# Altium footprint library INTEL-EDISON.PcbLib: 1 footprints
Each footprint in its own frame and in the unit in brackets; x right, y up, seen from the top. Pads: shape width x height; smd on the part's side, far side on the other; paste and mask are expansions set on the pad; w line width, h text height; cw(c..) or ccw(c..) is an arc to the next point about the centre after c.
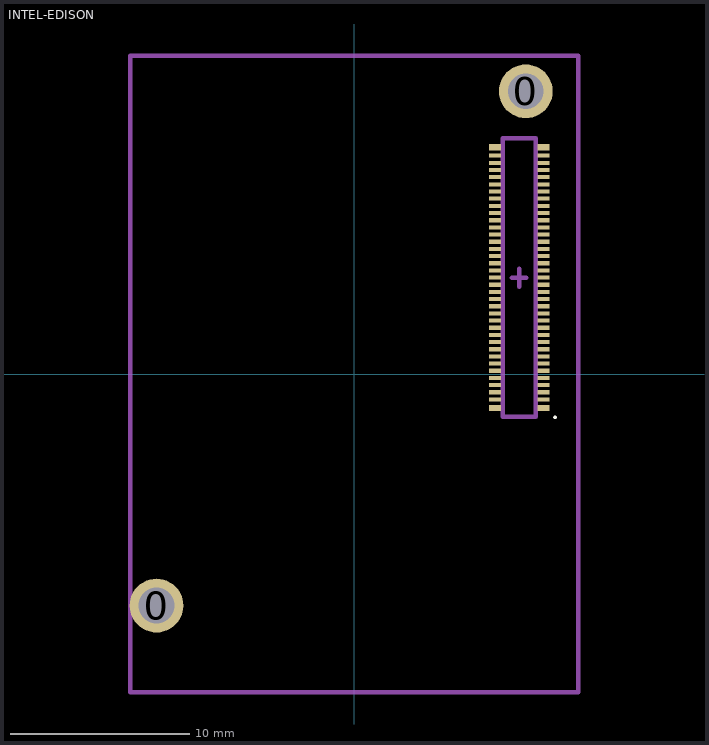
[diagram p0: the footprint, top view; thin cyan lines are the x and y axes]

## INTEL-EDISON [mm] "Intel Edison SBC"
height 5
pads (76):
  round 3 hole 2: 0(-11.03,-12.92) 0(9.57,15.77)
  rect 0.66x0.23 smd: 1(10.555,-1.42) 2(7.845,-1.42) 3(10.555,-1.02) 4(7.845,-1.02) 5(10.555,-0.62) 6(7.845,-0.62) 7(10.555,-0.22) 8(7.845,-0.22) 9(10.555,0.18) 10(7.845,0.18) 11(10.555,0.58) 12(7.845,0.58) 13(10.555,0.98) 14(7.845,0.98) 15(10.555,1.38) 16(7.845,1.38) 17(10.555,1.78) 18(7.845,1.78) 19(10.555,2.18) 20(7.845,2.18) 21(10.555,2.58) 22(7.845,2.58) 23(10.555,2.98) 24(7.845,2.98) 25(10.555,3.38) 26(7.845,3.38) 27(10.555,3.78) 28(7.845,3.78) 29(10.555,4.18) 30(7.845,4.18) 31(10.555,4.58) 32(7.845,4.58) 33(10.555,4.98) 34(7.845,4.98) 35(10.555,5.38) 36(7.845,5.38) 37(10.555,5.78) 38(7.845,5.78) 39(10.555,6.18) 40(7.845,6.18) 41(10.555,6.58) 42(7.845,6.58) 43(10.555,6.98) 44(7.845,6.98) 45(10.555,7.38) 46(7.845,7.38) 47(10.555,7.78) 48(7.845,7.78) 49(10.555,8.18) 50(7.845,8.18) 51(10.555,8.58) 52(7.845,8.58) 53(10.555,8.98) 54(7.845,8.98) 55(10.555,9.38) 56(7.845,9.38) 57(10.555,9.78) 58(7.845,9.78) 59(10.555,10.18) 60(7.845,10.18) 61(10.555,10.58) 62(7.845,10.58) 63(10.555,10.98) 64(7.845,10.98) 65(10.555,11.38) 66(7.845,11.38) 67(10.555,11.78) 68(7.845,11.78) 69(10.555,12.18) 70(7.845,12.18)
  rect 0.66x0.35 smd: ""(7.845,-1.895) ""(7.845,12.655) ""(10.555,-1.895) ""(10.555,12.655)
Top Overlay:
  circle w0.1: c11.2,-2.42 r0.05
Drill Guide:
  rectangle: 6.72,-17.75 12.5,-4.64
Top Comp Body:
  lines w0.254: -12.5,-17.75 12.5,-17.75 12.5,17.75 -12.5,17.75 -12.5,-17.75 ; 8.275,-2.38 8.275,13.14 10.125,13.14 10.125,-2.38 8.275,-2.38
Top Courtyard:
  lines w0.254: 8.8,5.38 9.2,5.38 ; 9.2,4.86 9.2,5.38 ; 9.2,5.86 9.2,5.38 ; 9.6,5.38 9.2,5.38
3D body "DF40C(2.0)-70DS.stp": height 1.9, standoff -0.05, extent 7.51,-2.935 10.89,13.665